# Altium integrated library ON Semi Rectifiers.IntLib: 435 symbols (part 3 of 10)
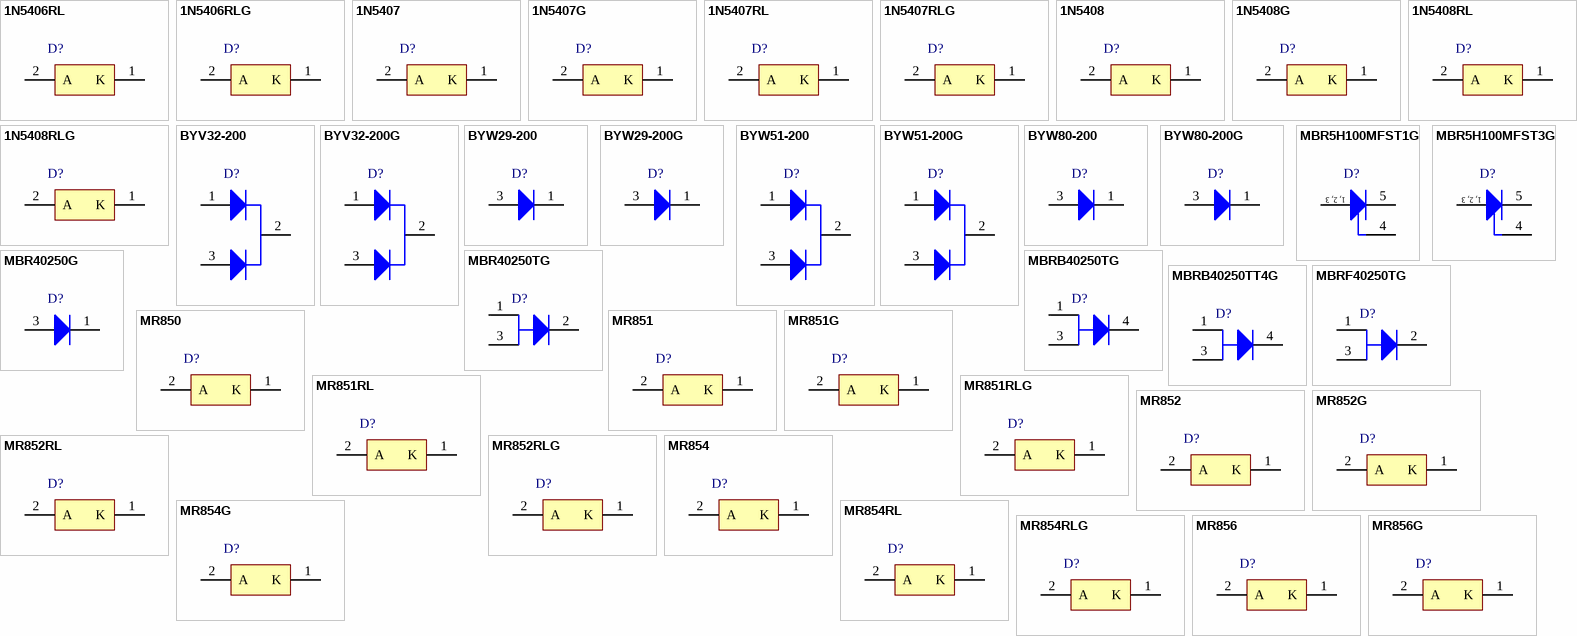
[diagram p12: symbols 1N5406RL to MR856G]

## BYW51-200G
designator D?
SWITCHMODE(TM) Power Rectifier, 3-Pin TO-220, Pb-Free, Tube; Manufacturer: On Semiconductor; PartNumber: BYW51-200G; IFSM Max (A): 100; Type: Ultrafast; VRRM Max (V): 200; DatasheetVersion: Rev. 4; PackageVersion: Rev. AF; PackageReference: TO-220-3-221A-09_AF; PackageDescription: 3-Pin Flange Mount, Vertical Straight Lead, Body 9.97 x 4.445 mm, Pitch 2.54 mm; Supplier 1: Digi-Key; Supplier Part Number 1: BYW51-200GOS-ND; Supplier 2: Farnell; Supplier Part Number 2: 2101174; Supplier 3: Newark; Supplier Part Number 3: 41K9632; Supplier 4: Mouser; Supplier Part Number 4: 863-BYW51-200G; Packing: Tube; RoHS: TRUE; Mounting Technology: Through Hole; ComponentLink1Description: Manufacturer URL; ComponentLink1URL: http://www.onsemi.com/; ComponentLink2Description: Datasheet; ComponentLink2URL: http://www.onsemi.com/pub_link/Collateral/BYW51-200-D.PDF; ComponentLink3Description: Package Specification; ComponentLink3URL: http://www.onsemi.cn/pub_link/Collateral/MCR8S-D.PDF
footprint ONSC-TO-220-3-221A-09_AF (FM, 3-Leads, Body 10.3x4.85mm, Pitch 2.54mm)
pins: 1 A1, 2 K, 3 A2

## BYW80-200
designator D?
SWITCHMODE(TM) Power Rectifier, 2-Pin TO-220, Tube; Manufacturer: On Semiconductor; PartNumber: BYW80-200; Note: 0; IFSM Max (A): 100; Type: Ultrafast; VRRM Max (V): 200; DatasheetVersion: Rev. 3; PackageVersion: Rev. E; PackageReference: TO-220-2-221B-04_E; PackageDescription: 2-Pin Flange Mount, Vertical Straight Lead, Body 9.97 x 4.44 mm, Pitch 5.08 mm; Packing: Tube; RoHS: FALSE; Mounting Technology: Through Hole; ComponentLink1Description: Manufacturer URL; ComponentLink1URL: http://www.onsemi.com/; ComponentLink2Description: Datasheet; ComponentLink2URL: http://www.onsemi.com/pub_link/Collateral/BYW80-D.PDF; ComponentLink3Description: Package Specification; ComponentLink3URL: http://www.onsemi.com/pub_link/Collateral/BYW29-D.PDF
footprint ONSC-TO-220-2-221B-04_E (FM, 2-Leads, Body 10.3x4.85mm, Pitch 5.08mm)
pins: 1 K, 3 A

## BYW80-200G
designator D?
SWITCHMODE(TM) Power Rectifier, 2-Pin TO-220, Pb-Free, Tube; Manufacturer: On Semiconductor; PartNumber: BYW80-200G; IFSM Max (A): 100; Type: Ultrafast; VRRM Max (V): 200; DatasheetVersion: Rev. 3; PackageVersion: Rev. E; PackageReference: TO-220-2-221B-04_E; PackageDescription: 2-Pin Flange Mount, Vertical Straight Lead, Body 9.97 x 4.44 mm, Pitch 5.08 mm; Supplier 1: Digi-Key; Supplier Part Number 1: BYW80-200GOS-ND; Supplier 2: Farnell; Supplier Part Number 2: 2101175; Supplier 3: Newark; Supplier Part Number 3: 41K9633; Supplier 4: Mouser; Supplier Part Number 4: 863-BYW80-200G; Packing: Tube; RoHS: TRUE; Mounting Technology: Through Hole; ComponentLink1Description: Manufacturer URL; ComponentLink1URL: http://www.onsemi.com/; ComponentLink2Description: Datasheet; ComponentLink2URL: http://www.onsemi.com/pub_link/Collateral/BYW80-D.PDF; ComponentLink3Description: Package Specification; ComponentLink3URL: http://www.onsemi.com/pub_link/Collateral/BYW29-D.PDF
footprint ONSC-TO-220-2-221B-04_E (FM, 2-Leads, Body 10.3x4.85mm, Pitch 5.08mm)
pins: 1 K, 3 A

## MBR5H100MFST1G
designator D?
SWITCHMODE(TM) Power Rectifier, 5-Pin DFN, Pb-Free, Tape and Reel; Manufacturer: On Semiconductor; PartNumber: MBR5H100MFST1G; IFSM Max (A): 200; DatasheetVersion: Rev. G; PackageVersion: Rev. G, 04/2012; PackageReference: DFN-5-488AA_G; PackageDescription: 5-Pin Small Outline No-Lead, Body 4.9 x 5.8 mm, Pitch 1.27 mm; Supplier 1: Digi-Key; Supplier Part Number 1: MBR5H100MFST1GOSTR-ND; Supplier 2: Digi-Key; Supplier Part Number 2: MBR5H100MFST1GOSCT-ND; Supplier 3: Digi-Key; Supplier Part Number 3: MBR5H100MFST1GOSDKR-ND; Supplier 4: Newark; Supplier Part Number 4: 76T6199; Supplier 5: Mouser; Supplier Part Number 5: 863-MBR5H100MFST1G; Packing: Tape and Reel; RoHS: TRUE; Mounting Technology: Surface Mount; ComponentLink1Description: Manufacturer URL; ComponentLink1URL: http://www.onsemi.com/; ComponentLink2Description: Datasheet; ComponentLink2URL: http://www.onsemi.com/pub_link/Collateral/MBR5H100MFS-D.PDF; ComponentLink3Description: Package Specification; ComponentLink3URL: http://www.onsemi.com/pub_link/Collateral/MBR5H100MFS-D.PDF
footprint ONSC-DFN-5-488AA_G_V (DFN, 5-Leads, Body 4.9x5.8mm)
pins: 1 A, 2 A, 3 A, 4 NC, 5 K
text: 1, 2, 3

## MBR5H100MFST3G
designator D?
SWITCHMODE(TM) Power Rectifier, 5-Pin DFN, Pb-Free, Tape and Reel; Manufacturer: On Semiconductor; PartNumber: MBR5H100MFST3G; IFSM Max (A): 200; DatasheetVersion: Rev. G; PackageVersion: Rev. G, 04/2012; PackageReference: DFN-5-488AA_G; PackageDescription: 5-Pin Small Outline No-Lead, Body 4.9 x 5.8 mm, Pitch 1.27 mm; Supplier 1: Mouser; Supplier Part Number 1: 863-MBR5H100MFST3G; Packing: Tape and Reel; RoHS: TRUE; Mounting Technology: Surface Mount; ComponentLink1Description: Manufacturer URL; ComponentLink1URL: http://www.onsemi.com/; ComponentLink2Description: Datasheet; ComponentLink2URL: http://www.onsemi.com/pub_link/Collateral/MBR5H100MFS-D.PDF; ComponentLink3Description: Package Specification; ComponentLink3URL: http://www.onsemi.com/pub_link/Collateral/MBR5H100MFS-D.PDF
footprint ONSC-DFN-5-488AA_G_V (DFN, 5-Leads, Body 4.9x5.8mm)
pins: 1 A, 2 A, 3 A, 4 NC, 5 K
text: 1, 2, 3

## MBR40250G
designator D?
250 V, 40 A SWITCHMODE(TM) Schottky Power Rectifier, 2-Pin TO-220, Pb-Free, Tube; Manufacturer: On Semiconductor; PartNumber: MBR40250G; IFSM Max (A): 150; VRRM Max (V): 250; DatasheetVersion: Rev. 12; PackageVersion: Rev. E; PackageReference: TO-220-2-221B-04_E; PackageDescription: 2-Pin Flange Mount, Vertical Straight Lead, Body 9.97 x 4.44 mm, Pitch 5.08 mm; Supplier 1: Digi-Key; Supplier Part Number 1: MBR40250GOS-ND; Supplier 2: Farnell; Supplier Part Number 2: 2317431; Supplier 3: Newark; Supplier Part Number 3: 42K0020; Supplier 4: Mouser; Supplier Part Number 4: 863-MBR40250G; Packing: Tube; RoHS: TRUE; Mounting Technology: Through Hole; ComponentLink1Description: Manufacturer URL; ComponentLink1URL: http://www.onsemi.com/; ComponentLink2Description: Datasheet; ComponentLink2URL: http://www.onsemi.com/pub_link/Collateral/MBR40250-D.PDF; ComponentLink3Description: Package Specification; ComponentLink3URL: http://www.onsemi.com/pub_link/Collateral/BYW29-D.PDF
footprint ONSC-TO-220-2-221B-04_E (FM, 2-Leads, Body 10.3x4.85mm, Pitch 5.08mm)
pins: 1 K, 3 A

## MBR40250TG
designator D?
250 V, 40 A SWITCHMODE(TM) Schottky Power Rectifier, 3-Pin TO-220, Pb-Free, Tube; Manufacturer: On Semiconductor; PartNumber: MBR40250TG; IFSM Max (A): 150; VRRM Max (V): 250; DatasheetVersion: Rev. 12; PackageVersion: Rev. AF; PackageReference: TO-220-3-221A-09_AF; PackageDescription: 3-Pin Flange Mount, Vertical Straight Lead, Body 9.97 x 4.445 mm, Pitch 2.54 mm; Supplier 1: Digi-Key; Supplier Part Number 1: MBR40250TGOS-ND; Supplier 2: Farnell; Supplier Part Number 2: 1431066; Supplier 3: Newark; Supplier Part Number 3: 42K0021; Supplier 4: Mouser; Supplier Part Number 4: 863-MBR40250TG; Packing: Tube; RoHS: TRUE; Mounting Technology: Through Hole; ComponentLink1Description: Manufacturer URL; ComponentLink1URL: http://www.onsemi.com/; ComponentLink2Description: Datasheet; ComponentLink2URL: http://www.onsemi.com/pub_link/Collateral/MBR40250-D.PDF; ComponentLink3Description: Package Specification; ComponentLink3URL: http://www.onsemi.cn/pub_link/Collateral/MCR8S-D.PDF
footprint ONSC-TO-220-3-221A-09_AF (FM, 3-Leads, Body 10.3x4.85mm, Pitch 2.54mm)
pins: 1 A, 2 K, 3 A

## MBRB40250TG
designator D?
250 V, 40 A SWITCHMODE(TM) Schottky Power Rectifier, 3-Pin D2PAK, Pb-Free, Tube; Manufacturer: On Semiconductor; PartNumber: MBRB40250TG; IFSM Max (A): 150; VRRM Max (V): 250; DatasheetVersion: Rev. 12; PackageVersion: Rev. K, 09/2008; PackageReference: D2PAK-3-418B-04; PackageDescription: 3-Pin Flange Mount, Body 9.145 x 9.97 mm, Pitch 2.54 mm; Supplier 1: Digi-Key; Supplier Part Number 1: MBRB40250TGOS-ND; Supplier 2: Farnell; Supplier Part Number 2: 2317525; Supplier 3: Newark; Supplier Part Number 3: 90W4477; Supplier 4: Newark; Supplier Part Number 4: 65T1370; Supplier 5: Mouser; Supplier Part Number 5: 863-MBRB40250TG; Packing: Tube; RoHS: TRUE; Mounting Technology: Surface Mount; ComponentLink1Description: Manufacturer URL; ComponentLink1URL: http://www.onsemi.com/; ComponentLink2Description: Datasheet; ComponentLink2URL: http://www.onsemi.com/pub_link/Collateral/MBR40250-D.PDF; ComponentLink3Description: Package Specification; ComponentLink3URL: http://www.onsemi.com/pub_link/Collateral/418B-04.PDF
footprint ONSC-D2PAK-3-418B-04_V (DPAK, 3-Leads, Body 9.97x9.145mm, Pitch 2.54mm)
pins: 1 A, 3 A, 4 K

## MBRB40250TT4G
designator D?
250 V, 40 A SWITCHMODE(TM) Schottky Power Rectifier, 3-Pin D2PAK, Pb-Free, Tape and Reel; Manufacturer: On Semiconductor; PartNumber: MBRB40250TT4G; IFSM Max (A): 150; VRRM Max (V): 250; DatasheetVersion: Rev. 12; PackageVersion: Rev. K, 09/2008; PackageReference: D2PAK-3-418B-04; PackageDescription: 3-Pin Flange Mount, Body 9.145 x 9.97 mm, Pitch 2.54 mm; Supplier 1: Newark; Supplier Part Number 1: 47W0367; Packing: Tape and Reel; RoHS: TRUE; Mounting Technology: Surface Mount; ComponentLink1Description: Manufacturer URL; ComponentLink1URL: http://www.onsemi.com/; ComponentLink2Description: Datasheet; ComponentLink2URL: http://www.onsemi.com/pub_link/Collateral/MBR40250-D.PDF; ComponentLink3Description: Package Specification; ComponentLink3URL: http://www.onsemi.com/pub_link/Collateral/418B-04.PDF
footprint ONSC-D2PAK-3-418B-04_V (DPAK, 3-Leads, Body 9.97x9.145mm, Pitch 2.54mm)
pins: 1 A, 3 A, 4 K

## MBRF40250TG
designator D?
250 V, 40 A SWITCHMODE(TM) Schottky Power Rectifier, 3-Pin TO-220, Pb-Free, Tube; Manufacturer: On Semiconductor; PartNumber: MBRF40250TG; IFSM Max (A): 150; VRRM Max (V): 250; DatasheetVersion: Rev. 12; PackageVersion: Rev. K, 02/2009; PackageReference: TO-220FP-3-221D-03; PackageDescription: 3-Pin Flange Mount, Vertical Straight Lead, Body 10.295 x 4.7 mm, Pitch 2.54 mm; Supplier 1: Digi-Key; Supplier Part Number 1: MBRF40250TGOS-ND; Supplier 2: Newark; Supplier Part Number 2: 41K9979; Supplier 3: Mouser; Supplier Part Number 3: 863-MBRF40250TG; Packing: Tube; RoHS: TRUE; Mounting Technology: Through Hole; ComponentLink1Description: Manufacturer URL; ComponentLink1URL: http://www.onsemi.com/; ComponentLink2Description: Datasheet; ComponentLink2URL: http://www.onsemi.com/pub_link/Collateral/MBR40250-D.PDF; ComponentLink3Description: Package Specification; ComponentLink3URL: http://www.onsemi.cn/pub_link/Collateral/221D-03.PDF
footprint ONSC-TO-220FP-3-221D-03 (FM, 3-Leads, Body 10.63x4.9mm, Pitch 2.54mm)
pins: 1 A, 2 K, 3 A

## MR850
designator D?
Fast Recovery Rectifier, 2-Pin Axial_Lead, Pb-Free, Bulk Box; Manufacturer: On Semiconductor; PartNumber: MR850; IFSM Max (A): 100; IO(rec) Max (A): 3; VRRM Max (V): 50; DatasheetVersion: Rev. 6; PackageVersion: Rev. G, 06/2000; PackageReference: AXIAL_LEAD-2-267-05; PackageDescription: 2-Pin, Axial Lead, Diameter 5.05 mm; Supplier 1: Digi-Key; Supplier Part Number 1: MR850-ND; Supplier 2: Mouser; Supplier Part Number 2: 863-MR850; Packing: Bulk Box; RoHS: TRUE; Type: Fast Recovery; Mounting Technology: Through Hole; ComponentLink1Description: Manufacturer URL; ComponentLink1URL: http://www.onsemi.com/; ComponentLink2Description: Datasheet; ComponentLink2URL: http://www.onsemi.com/pub_link/Collateral/MR850-D.PDF; ComponentLink3Description: Package Specification; ComponentLink3URL: http://www.onsemi.com/pub_link/Collateral/267-05.PDF
footprint ONSC-AXIAL_LEAD-2-267-05_V (AXIAL, 2-Leads, Diameter 5.05mm)
pins: 1 K, 2 A

## MR851
designator D?
Fast Recovery Rectifier, 2-Pin Axial_Lead, Pb-Free, Bulk Box; Manufacturer: On Semiconductor; PartNumber: MR851; IFSM Max (A): 100; IO(rec) Max (A): 3; DatasheetVersion: Rev. 6; PackageVersion: Rev. G, 06/2000; PackageReference: AXIAL_LEAD-2-267-05; PackageDescription: 2-Pin, Axial Lead, Diameter 5.05 mm; Supplier 1: Digi-Key; Supplier Part Number 1: MR851-ND; Supplier 2: Mouser; Supplier Part Number 2: 863-MR851; Packing: Bulk Box; RoHS: TRUE; Type: Fast Recovery; VRRM Max (V): 100; Mounting Technology: Through Hole; ComponentLink1Description: Manufacturer URL; ComponentLink1URL: http://www.onsemi.com/; ComponentLink2Description: Datasheet; ComponentLink2URL: http://www.onsemi.com/pub_link/Collateral/MR850-D.PDF; ComponentLink3Description: Package Specification; ComponentLink3URL: http://www.onsemi.com/pub_link/Collateral/267-05.PDF
footprint ONSC-AXIAL_LEAD-2-267-05_V (AXIAL, 2-Leads, Diameter 5.05mm)
pins: 1 K, 2 A

## MR851G
designator D?
Fast Recovery Rectifier, 2-Pin Axial_Lead, Pb-Free, Bulk Box; Manufacturer: On Semiconductor; PartNumber: MR851G; IFSM Max (A): 100; IO(rec) Max (A): 3; DatasheetVersion: Rev. 6; PackageVersion: Rev. G, 06/2000; PackageReference: AXIAL_LEAD-2-267-05; PackageDescription: 2-Pin, Axial Lead, Diameter 5.05 mm; Supplier 1: Digi-Key; Supplier Part Number 1: MR851GOS-ND; Supplier 2: Newark; Supplier Part Number 2: 68K0664; Supplier 3: Mouser; Supplier Part Number 3: 863-MR851G; Packing: Bulk Box; RoHS: TRUE; Type: Fast Recovery; VRRM Max (V): 100; Mounting Technology: Through Hole; ComponentLink1Description: Manufacturer URL; ComponentLink1URL: http://www.onsemi.com/; ComponentLink2Description: Datasheet; ComponentLink2URL: http://www.onsemi.com/pub_link/Collateral/MR850-D.PDF; ComponentLink3Description: Package Specification; ComponentLink3URL: http://www.onsemi.com/pub_link/Collateral/267-05.PDF
footprint ONSC-AXIAL_LEAD-2-267-05_V (AXIAL, 2-Leads, Diameter 5.05mm)
pins: 1 K, 2 A

## MR851RL
designator D?
Fast Recovery Rectifier, 2-Pin Axial_Lead, Pb-Free, Tape and Reel; Manufacturer: On Semiconductor; PartNumber: MR851RL; IFSM Max (A): 100; IO(rec) Max (A): 3; DatasheetVersion: Rev. 6; PackageVersion: Rev. G, 06/2000; PackageReference: AXIAL_LEAD-2-267-05; PackageDescription: 2-Pin, Axial Lead, Diameter 5.05 mm; Supplier 1: Digi-Key; Supplier Part Number 1: MR851RL-ND; Supplier 2: Mouser; Supplier Part Number 2: 863-MR851RL; Packing: Tape and Reel; RoHS: TRUE; Type: Fast Recovery; VRRM Max (V): 100; Mounting Technology: Through Hole; ComponentLink1Description: Manufacturer URL; ComponentLink1URL: http://www.onsemi.com/; ComponentLink2Description: Datasheet; ComponentLink2URL: http://www.onsemi.com/pub_link/Collateral/MR850-D.PDF; ComponentLink3Description: Package Specification; ComponentLink3URL: http://www.onsemi.com/pub_link/Collateral/267-05.PDF
footprint ONSC-AXIAL_LEAD-2-267-05_V (AXIAL, 2-Leads, Diameter 5.05mm)
pins: 1 K, 2 A

## MR851RLG
designator D?
Fast Recovery Rectifier, 2-Pin Axial_Lead, Pb-Free, Tape and Reel; Manufacturer: On Semiconductor; PartNumber: MR851RLG; IFSM Max (A): 100; IO(rec) Max (A): 3; DatasheetVersion: Rev. 6; PackageVersion: Rev. G, 06/2000; PackageReference: AXIAL_LEAD-2-267-05; PackageDescription: 2-Pin, Axial Lead, Diameter 5.05 mm; Supplier 1: Digi-Key; Supplier Part Number 1: MR851RLGOSTR-ND; Supplier 2: Digi-Key; Supplier Part Number 2: MR851RLGOSCT-ND; Supplier 3: Farnell; Supplier Part Number 3: 1887100; Supplier 4: Newark; Supplier Part Number 4: 09R9548; Supplier 5: Mouser; Supplier Part Number 5: 863-MR851RLG; Packing: Tape and Reel; RoHS: TRUE; Type: Fast Recovery; VRRM Max (V): 100; Mounting Technology: Through Hole; ComponentLink1Description: Manufacturer URL; ComponentLink1URL: http://www.onsemi.com/; ComponentLink2Description: Datasheet; ComponentLink2URL: http://www.onsemi.com/pub_link/Collateral/MR850-D.PDF; ComponentLink3Description: Package Specification; ComponentLink3URL: http://www.onsemi.com/pub_link/Collateral/267-05.PDF
footprint ONSC-AXIAL_LEAD-2-267-05_V (AXIAL, 2-Leads, Diameter 5.05mm)
pins: 1 K, 2 A

## MR852
designator D?
Fast Recovery Rectifier, 2-Pin Axial_Lead, Pb-Free, Bulk Box; Manufacturer: On Semiconductor; PartNumber: MR852; IFSM Max (A): 100; IO(rec) Max (A): 3; VRRM Max (V): 200; DatasheetVersion: Rev. 6; PackageVersion: Rev. G, 06/2000; PackageReference: AXIAL_LEAD-2-267-05; PackageDescription: 2-Pin, Axial Lead, Diameter 5.05 mm; Supplier 1: Digi-Key; Supplier Part Number 1: MR852-ND; Supplier 2: Mouser; Supplier Part Number 2: 863-MR852; Packing: Bulk Box; RoHS: TRUE; Type: Fast Recovery; Mounting Technology: Through Hole; ComponentLink1Description: Manufacturer URL; ComponentLink1URL: http://www.onsemi.com/; ComponentLink2Description: Datasheet; ComponentLink2URL: http://www.onsemi.com/pub_link/Collateral/MR850-D.PDF; ComponentLink3Description: Package Specification; ComponentLink3URL: http://www.onsemi.com/pub_link/Collateral/267-05.PDF
footprint ONSC-AXIAL_LEAD-2-267-05_V (AXIAL, 2-Leads, Diameter 5.05mm)
pins: 1 K, 2 A

## MR852G
designator D?
Fast Recovery Rectifier, 2-Pin Axial_Lead, Pb-Free, Bulk Box; Manufacturer: On Semiconductor; PartNumber: MR852G; IFSM Max (A): 100; IO(rec) Max (A): 3; VRRM Max (V): 200; DatasheetVersion: Rev. 6; PackageVersion: Rev. G, 06/2000; PackageReference: AXIAL_LEAD-2-267-05; PackageDescription: 2-Pin, Axial Lead, Diameter 5.05 mm; Supplier 1: Digi-Key; Supplier Part Number 1: MR852GOS-ND; Supplier 2: Farnell; Supplier Part Number 2: 1459131; Supplier 3: Newark; Supplier Part Number 3: 42K1533; Supplier 4: Mouser; Supplier Part Number 4: 863-MR852G; Packing: Bulk Box; RoHS: TRUE; Type: Fast Recovery; Mounting Technology: Through Hole; ComponentLink1Description: Manufacturer URL; ComponentLink1URL: http://www.onsemi.com/; ComponentLink2Description: Datasheet; ComponentLink2URL: http://www.onsemi.com/pub_link/Collateral/MR850-D.PDF; ComponentLink3Description: Package Specification; ComponentLink3URL: http://www.onsemi.com/pub_link/Collateral/267-05.PDF
footprint ONSC-AXIAL_LEAD-2-267-05_V (AXIAL, 2-Leads, Diameter 5.05mm)
pins: 1 K, 2 A

## MR852RL
designator D?
Fast Recovery Rectifier, 2-Pin Axial_Lead, Pb-Free, Tape and Reel; Manufacturer: On Semiconductor; PartNumber: MR852RL; IFSM Max (A): 100; IO(rec) Max (A): 3; VRRM Max (V): 200; DatasheetVersion: Rev. 6; PackageVersion: Rev. G, 06/2000; PackageReference: AXIAL_LEAD-2-267-05; PackageDescription: 2-Pin, Axial Lead, Diameter 5.05 mm; Supplier 1: Digi-Key; Supplier Part Number 1: MR852RLOSTR-ND; Supplier 2: Digi-Key; Supplier Part Number 2: MR852RLOSCT-ND; Supplier 3: Mouser; Supplier Part Number 3: 863-MR852RL; Packing: Tape and Reel; RoHS: TRUE; Type: Fast Recovery; Mounting Technology: Through Hole; ComponentLink1Description: Manufacturer URL; ComponentLink1URL: http://www.onsemi.com/; ComponentLink2Description: Datasheet; ComponentLink2URL: http://www.onsemi.com/pub_link/Collateral/MR850-D.PDF; ComponentLink3Description: Package Specification; ComponentLink3URL: http://www.onsemi.com/pub_link/Collateral/267-05.PDF
footprint ONSC-AXIAL_LEAD-2-267-05_V (AXIAL, 2-Leads, Diameter 5.05mm)
pins: 1 K, 2 A

## MR852RLG
designator D?
Fast Recovery Rectifier, 2-Pin Axial_Lead, Pb-Free, Tape and Reel; Manufacturer: On Semiconductor; PartNumber: MR852RLG; IFSM Max (A): 100; IO(rec) Max (A): 3; VRRM Max (V): 200; DatasheetVersion: Rev. 6; PackageVersion: Rev. G, 06/2000; PackageReference: AXIAL_LEAD-2-267-05; PackageDescription: 2-Pin, Axial Lead, Diameter 5.05 mm; Supplier 1: Digi-Key; Supplier Part Number 1: MR852RLGOSTR-ND; Supplier 2: Digi-Key; Supplier Part Number 2: MR852RLGOSCT-ND; Supplier 3: Farnell; Supplier Part Number 3: 9556346; Supplier 4: Newark; Supplier Part Number 4: 09R9549; Supplier 5: Mouser; Supplier Part Number 5: 863-MR852RLG; Packing: Tape and Reel; RoHS: TRUE; Type: Fast Recovery; Mounting Technology: Through Hole; ComponentLink1Description: Manufacturer URL; ComponentLink1URL: http://www.onsemi.com/; ComponentLink2Description: Datasheet; ComponentLink2URL: http://www.onsemi.com/pub_link/Collateral/MR850-D.PDF; ComponentLink3Description: Package Specification; ComponentLink3URL: http://www.onsemi.com/pub_link/Collateral/267-05.PDF
footprint ONSC-AXIAL_LEAD-2-267-05_V (AXIAL, 2-Leads, Diameter 5.05mm)
pins: 1 K, 2 A

## MR854
designator D?
Fast Recovery Rectifier, 2-Pin Axial_Lead, Pb-Free, Bulk Box; Manufacturer: On Semiconductor; PartNumber: MR854; IFSM Max (A): 100; IO(rec) Max (A): 3; VRRM Max (V): 400; DatasheetVersion: Rev. 6; PackageVersion: Rev. G, 06/2000; PackageReference: AXIAL_LEAD-2-267-05; PackageDescription: 2-Pin, Axial Lead, Diameter 5.05 mm; Supplier 1: Digi-Key; Supplier Part Number 1: MR854OS-ND; Supplier 2: Mouser; Supplier Part Number 2: 863-MR854; Packing: Bulk Box; RoHS: TRUE; Type: Fast Recovery; Mounting Technology: Through Hole; ComponentLink1Description: Manufacturer URL; ComponentLink1URL: http://www.onsemi.com/; ComponentLink2Description: Datasheet; ComponentLink2URL: http://www.onsemi.com/pub_link/Collateral/MR850-D.PDF; ComponentLink3Description: Package Specification; ComponentLink3URL: http://www.onsemi.com/pub_link/Collateral/267-05.PDF
footprint ONSC-AXIAL_LEAD-2-267-05_V (AXIAL, 2-Leads, Diameter 5.05mm)
pins: 1 K, 2 A

## MR854G
designator D?
Fast Recovery Rectifier, 2-Pin Axial_Lead, Pb-Free, Bulk Box; Manufacturer: On Semiconductor; PartNumber: MR854G; IFSM Max (A): 100; IO(rec) Max (A): 3; VRRM Max (V): 400; DatasheetVersion: Rev. 6; PackageVersion: Rev. G, 06/2000; PackageReference: AXIAL_LEAD-2-267-05; PackageDescription: 2-Pin, Axial Lead, Diameter 5.05 mm; Supplier 1: Digi-Key; Supplier Part Number 1: MR854GOS-ND; Supplier 2: Farnell; Supplier Part Number 2: 1705900; Supplier 3: Newark; Supplier Part Number 3: 42K1535; Supplier 4: Mouser; Supplier Part Number 4: 863-MR854G; Packing: Bulk Box; RoHS: TRUE; Type: Fast Recovery; Mounting Technology: Through Hole; ComponentLink1Description: Manufacturer URL; ComponentLink1URL: http://www.onsemi.com/; ComponentLink2Description: Datasheet; ComponentLink2URL: http://www.onsemi.com/pub_link/Collateral/MR850-D.PDF; ComponentLink3Description: Package Specification; ComponentLink3URL: http://www.onsemi.com/pub_link/Collateral/267-05.PDF
footprint ONSC-AXIAL_LEAD-2-267-05_V (AXIAL, 2-Leads, Diameter 5.05mm)
pins: 1 K, 2 A

## MR854RL
designator D?
Fast Recovery Rectifier, 2-Pin Axial_Lead, Pb-Free, Tape and Reel; Manufacturer: On Semiconductor; PartNumber: MR854RL; IFSM Max (A): 100; IO(rec) Max (A): 3; VRRM Max (V): 400; DatasheetVersion: Rev. 6; PackageVersion: Rev. G, 06/2000; PackageReference: AXIAL_LEAD-2-267-05; PackageDescription: 2-Pin, Axial Lead, Diameter 5.05 mm; Supplier 1: Digi-Key; Supplier Part Number 1: MR854RL-ND; Supplier 2: Mouser; Supplier Part Number 2: 863-MR854RL; Packing: Tape and Reel; RoHS: TRUE; Type: Fast Recovery; Mounting Technology: Through Hole; ComponentLink1Description: Manufacturer URL; ComponentLink1URL: http://www.onsemi.com/; ComponentLink2Description: Datasheet; ComponentLink2URL: http://www.onsemi.com/pub_link/Collateral/MR850-D.PDF; ComponentLink3Description: Package Specification; ComponentLink3URL: http://www.onsemi.com/pub_link/Collateral/267-05.PDF
footprint ONSC-AXIAL_LEAD-2-267-05_V (AXIAL, 2-Leads, Diameter 5.05mm)
pins: 1 K, 2 A

## MR854RLG
designator D?
Fast Recovery Rectifier, 2-Pin Axial_Lead, Pb-Free, Tape and Reel; Manufacturer: On Semiconductor; PartNumber: MR854RLG; IFSM Max (A): 100; IO(rec) Max (A): 3; VRRM Max (V): 400; DatasheetVersion: Rev. 6; PackageVersion: Rev. G, 06/2000; PackageReference: AXIAL_LEAD-2-267-05; PackageDescription: 2-Pin, Axial Lead, Diameter 5.05 mm; Supplier 1: Digi-Key; Supplier Part Number 1: MR854RLGOSTR-ND; Supplier 2: Digi-Key; Supplier Part Number 2: MR854RLGOSCT-ND; Supplier 3: Farnell; Supplier Part Number 3: 1651049; Supplier 4: Newark; Supplier Part Number 4: 84K8817; Supplier 5: Mouser; Supplier Part Number 5: 863-MR854RLG; Packing: Tape and Reel; RoHS: TRUE; Type: Fast Recovery; Mounting Technology: Through Hole; ComponentLink1Description: Manufacturer URL; ComponentLink1URL: http://www.onsemi.com/; ComponentLink2Description: Datasheet; ComponentLink2URL: http://www.onsemi.com/pub_link/Collateral/MR850-D.PDF; ComponentLink3Description: Package Specification; ComponentLink3URL: http://www.onsemi.com/pub_link/Collateral/267-05.PDF
footprint ONSC-AXIAL_LEAD-2-267-05_V (AXIAL, 2-Leads, Diameter 5.05mm)
pins: 1 K, 2 A

## MR856
designator D?
Fast Recovery Rectifier, 2-Pin Axial_Lead, Pb-Free, Bulk Box; Manufacturer: On Semiconductor; PartNumber: MR856; IFSM Max (A): 100; IO(rec) Max (A): 3; VRRM Max (V): 600; DatasheetVersion: Rev. 6; PackageVersion: Rev. G, 06/2000; PackageReference: AXIAL_LEAD-2-267-05; PackageDescription: 2-Pin, Axial Lead, Diameter 5.05 mm; Supplier 1: Digi-Key; Supplier Part Number 1: MR856-ND; Supplier 2: Mouser; Supplier Part Number 2: 863-MR856; Packing: Bulk Box; RoHS: TRUE; Type: Fast Recovery; Mounting Technology: Through Hole; ComponentLink1Description: Manufacturer URL; ComponentLink1URL: http://www.onsemi.com/; ComponentLink2Description: Datasheet; ComponentLink2URL: http://www.onsemi.com/pub_link/Collateral/MR850-D.PDF; ComponentLink3Description: Package Specification; ComponentLink3URL: http://www.onsemi.com/pub_link/Collateral/267-05.PDF
footprint ONSC-AXIAL_LEAD-2-267-05_V (AXIAL, 2-Leads, Diameter 5.05mm)
pins: 1 K, 2 A

## MR856G
designator D?
Fast Recovery Rectifier, 2-Pin Axial_Lead, Pb-Free, Bulk Box; Manufacturer: On Semiconductor; PartNumber: MR856G; IFSM Max (A): 100; IO(rec) Max (A): 3; VRRM Max (V): 600; DatasheetVersion: Rev. 6; PackageVersion: Rev. G, 06/2000; PackageReference: AXIAL_LEAD-2-267-05; PackageDescription: 2-Pin, Axial Lead, Diameter 5.05 mm; Supplier 1: Digi-Key; Supplier Part Number 1: MR856GOS-ND; Supplier 2: Farnell; Supplier Part Number 2: 1459133; Supplier 3: Newark; Supplier Part Number 3: 42K1538; Supplier 4: Mouser; Supplier Part Number 4: 863-MR856G; Packing: Bulk Box; RoHS: TRUE; Type: Fast Recovery; Mounting Technology: Through Hole; ComponentLink1Description: Manufacturer URL; ComponentLink1URL: http://www.onsemi.com/; ComponentLink2Description: Datasheet; ComponentLink2URL: http://www.onsemi.com/pub_link/Collateral/MR850-D.PDF; ComponentLink3Description: Package Specification; ComponentLink3URL: http://www.onsemi.com/pub_link/Collateral/267-05.PDF
footprint ONSC-AXIAL_LEAD-2-267-05_V (AXIAL, 2-Leads, Diameter 5.05mm)
pins: 1 K, 2 A

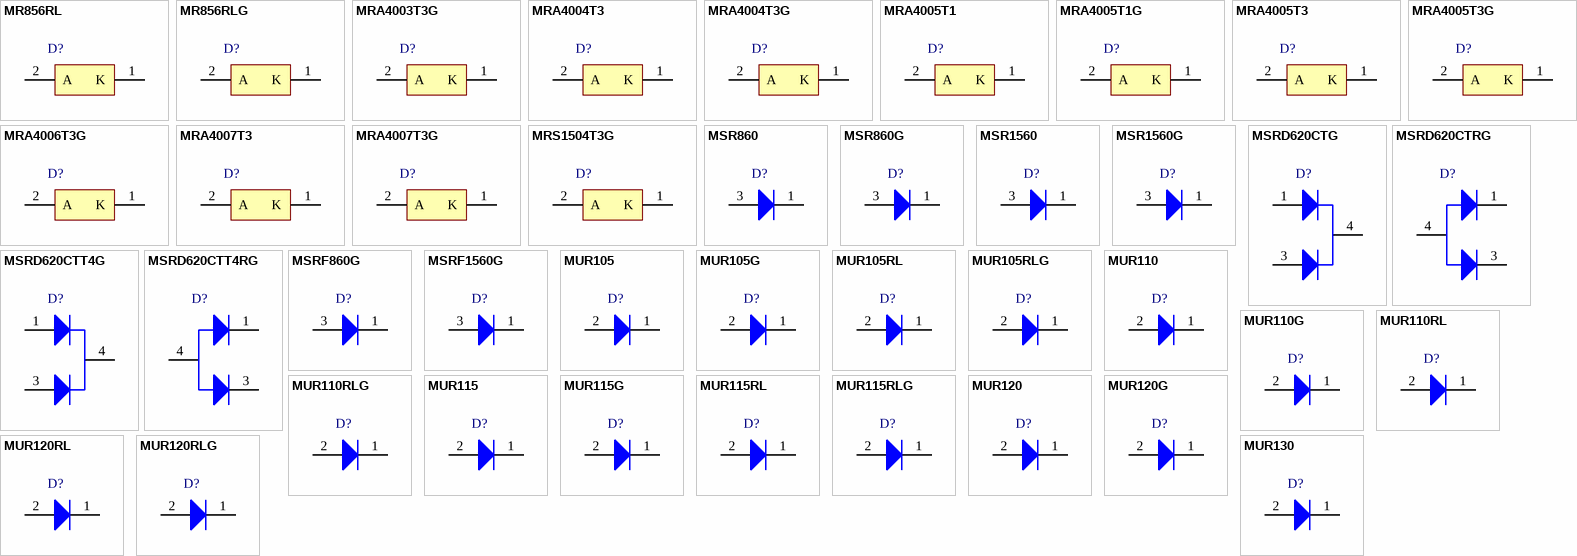
[diagram p3: symbols MR856RL to MUR130]

## MR856RL
designator D?
Fast Recovery Rectifier, 2-Pin Axial_Lead, Pb-Free, Tape and Reel; Manufacturer: On Semiconductor; PartNumber: MR856RL; IFSM Max (A): 100; IO(rec) Max (A): 3; VRRM Max (V): 600; DatasheetVersion: Rev. 6; PackageVersion: Rev. G, 06/2000; PackageReference: AXIAL_LEAD-2-267-05; PackageDescription: 2-Pin, Axial Lead, Diameter 5.05 mm; Supplier 1: Digi-Key; Supplier Part Number 1: MR856RLOSTR-ND; Supplier 2: Digi-Key; Supplier Part Number 2: MR856RLOSCT-ND; Supplier 3: Mouser; Supplier Part Number 3: 863-MR856RL; Packing: Tape and Reel; RoHS: TRUE; Type: Fast Recovery; Mounting Technology: Through Hole; ComponentLink1Description: Manufacturer URL; ComponentLink1URL: http://www.onsemi.com/; ComponentLink2Description: Datasheet; ComponentLink2URL: http://www.onsemi.com/pub_link/Collateral/MR850-D.PDF; ComponentLink3Description: Package Specification; ComponentLink3URL: http://www.onsemi.com/pub_link/Collateral/267-05.PDF
footprint ONSC-AXIAL_LEAD-2-267-05_V (AXIAL, 2-Leads, Diameter 5.05mm)
pins: 1 K, 2 A

## MR856RLG
designator D?
Fast Recovery Rectifier, 2-Pin Axial_Lead, Pb-Free, Tape and Reel; Manufacturer: On Semiconductor; PartNumber: MR856RLG; IFSM Max (A): 100; IO(rec) Max (A): 3; VRRM Max (V): 600; DatasheetVersion: Rev. 6; PackageVersion: Rev. G, 06/2000; PackageReference: AXIAL_LEAD-2-267-05; PackageDescription: 2-Pin, Axial Lead, Diameter 5.05 mm; Supplier 1: Digi-Key; Supplier Part Number 1: MR856RLGOSTR-ND; Supplier 2: Digi-Key; Supplier Part Number 2: MR856RLGOSCT-ND; Supplier 3: Farnell; Supplier Part Number 3: 9556354; Supplier 4: Farnell; Supplier Part Number 4: 2368189; Supplier 5: Newark; Supplier Part Number 5: 42K1539; Supplier 6: Newark; Supplier Part Number 6: 84K8818; Supplier 7: Mouser; Supplier Part Number 7: 863-MR856RLG; Packing: Tape and Reel; RoHS: TRUE; Type: Fast Recovery; Mounting Technology: Through Hole; ComponentLink1Description: Manufacturer URL; ComponentLink1URL: http://www.onsemi.com/; ComponentLink2Description: Datasheet; ComponentLink2URL: http://www.onsemi.com/pub_link/Collateral/MR850-D.PDF; ComponentLink3Description: Package Specification; ComponentLink3URL: http://www.onsemi.com/pub_link/Collateral/267-05.PDF
footprint ONSC-AXIAL_LEAD-2-267-05_V (AXIAL, 2-Leads, Diameter 5.05mm)
pins: 1 K, 2 A

## MRA4003T3G
designator D?
Surface Mount Standard Recovery Power Rectifier, 2-Pin SMA, Pb-Free, Tape and Reel; Manufacturer: On Semiconductor; PartNumber: MRA4003T3G; IFSM Max (A): 30; IO(rec) Max (A): 1; VRRM Max (V): 300; DatasheetVersion: Rev. 9; PackageVersion: Rev. G, 07/2012; PackageReference: SMA-2-403D-02; PackageDescription: 2-Pin Small Molded Package, J-Bend Lead, Body 2.605 x 4.315 mm; Supplier 1: Digi-Key; Supplier Part Number 1: MRA4003T3GOSTR-ND; Supplier 2: Digi-Key; Supplier Part Number 2: MRA4003T3GOSCT-ND; Supplier 3: Digi-Key; Supplier Part Number 3: MRA4003T3GOSDKR-ND; Supplier 4: Farnell; Supplier Part Number 4: 1459134RL; Supplier 5: Farnell; Supplier Part Number 5: 1459134; Supplier 6: Farnell; Supplier Part Number 6: 2363492; Supplier 7: Newark; Supplier Part Number 7: 45J1686; Supplier 8: Newark; Supplier Part Number 8: 67R1383; Supplier 9: Mouser; Supplier Part Number 9: 863-MRA4003T3G; Packing: Tape and Reel; RoHS: TRUE; Type: Standard Recovery; Mounting Technology: Surface Mount; ComponentLink1Description: Manufacturer URL; ComponentLink1URL: http://www.onsemi.com/; ComponentLink2Description: Datasheet; ComponentLink2URL: http://www.onsemi.com/pub_link/Collateral/MRA4003T3-D.PDF; ComponentLink3Description: Package Specification; ComponentLink3URL: http://www.onsemi.com/pub_link/Collateral/403D-02.PDF
footprint ONSC-SMA-2-403D-02_V (Molded, 2-Leads, Body 4.57x2.92mm)
pins: 1 K, 2 A

## MRA4004T3
designator D?
Surface Mount Standard Recovery Power Rectifier, 2-Pin SMA, Tape and Reel; Manufacturer: On Semiconductor; PartNumber: MRA4004T3; IFSM Max (A): 30; IO(rec) Max (A): 1; VRRM Max (V): 400; DatasheetVersion: Rev. 9; PackageVersion: Rev. G, 07/2012; PackageReference: SMA-2-403D-02; PackageDescription: 2-Pin Small Molded Package, J-Bend Lead, Body 2.605 x 4.315 mm; Supplier 1: Digi-Key; Supplier Part Number 1: MRA4004T3OSTR-ND; Supplier 2: Digi-Key; Supplier Part Number 2: MRA4004T3OSCT-ND; Supplier 3: Digi-Key; Supplier Part Number 3: MRA4004T3OSDKR-ND; Packing: Tape and Reel; RoHS: FALSE; Type: Standard Recovery; Mounting Technology: Surface Mount; ComponentLink1Description: Manufacturer URL; ComponentLink1URL: http://www.onsemi.com/; ComponentLink2Description: Datasheet; ComponentLink2URL: http://www.onsemi.com/pub_link/Collateral/MRA4003T3-D.PDF; ComponentLink3Description: Package Specification; ComponentLink3URL: http://www.onsemi.com/pub_link/Collateral/403D-02.PDF
footprint ONSC-SMA-2-403D-02_V (Molded, 2-Leads, Body 4.57x2.92mm)
pins: 1 K, 2 A

## MRA4004T3G
designator D?
Surface Mount Standard Recovery Power Rectifier, 2-Pin SMA, Pb-Free, Tape and Reel; Manufacturer: On Semiconductor; PartNumber: MRA4004T3G; IFSM Max (A): 30; IO(rec) Max (A): 1; VRRM Max (V): 400; DatasheetVersion: Rev. 9; PackageVersion: Rev. G, 07/2012; PackageReference: SMA-2-403D-02; PackageDescription: 2-Pin Small Molded Package, J-Bend Lead, Body 2.605 x 4.315 mm; Supplier 1: Digi-Key; Supplier Part Number 1: MRA4004T3GOSTR-ND; Supplier 2: Digi-Key; Supplier Part Number 2: MRA4004T3GOSCT-ND; Supplier 3: Digi-Key; Supplier Part Number 3: MRA4004T3GOSDKR-ND; Supplier 4: Farnell; Supplier Part Number 4: 1459135; Supplier 5: Farnell; Supplier Part Number 5: 1459135RL; Supplier 6: Farnell; Supplier Part Number 6: 1874045; Supplier 7: Newark; Supplier Part Number 7: 45J1687; Supplier 8: Newark; Supplier Part Number 8: 31M3369; Supplier 9: Mouser; Supplier Part Number 9: 863-MRA4004T3G; Packing: Tape and Reel; RoHS: TRUE; Type: Standard Recovery; Mounting Technology: Surface Mount; ComponentLink1Description: Manufacturer URL; ComponentLink1URL: http://www.onsemi.com/; ComponentLink2Description: Datasheet; ComponentLink2URL: http://www.onsemi.com/pub_link/Collateral/MRA4003T3-D.PDF; ComponentLink3Description: Package Specification; ComponentLink3URL: http://www.onsemi.com/pub_link/Collateral/403D-02.PDF
footprint ONSC-SMA-2-403D-02_V (Molded, 2-Leads, Body 4.57x2.92mm)
pins: 1 K, 2 A

## MRA4005T1
designator D?
Surface Mount Standard Recovery Power Rectifier, 2-Pin SMA, Tape and Reel; Manufacturer: On Semiconductor; PartNumber: MRA4005T1; IFSM Max (A): 30; IO(rec) Max (A): 1; VRRM Max (V): 600; DatasheetVersion: Rev. 9; PackageVersion: Rev. G, 07/2012; PackageReference: SMA-2-403D-02; PackageDescription: 2-Pin Small Molded Package, J-Bend Lead, Body 2.605 x 4.315 mm; Supplier 1: Digi-Key; Supplier Part Number 1: MRA4005T1-ND; Packing: Tape and Reel; RoHS: FALSE; Type: Standard Recovery; Mounting Technology: Surface Mount; ComponentLink1Description: Manufacturer URL; ComponentLink1URL: http://www.onsemi.com/; ComponentLink2Description: Datasheet; ComponentLink2URL: http://www.onsemi.com/pub_link/Collateral/MRA4003T3-D.PDF; ComponentLink3Description: Package Specification; ComponentLink3URL: http://www.onsemi.com/pub_link/Collateral/403D-02.PDF
footprint ONSC-SMA-2-403D-02_V (Molded, 2-Leads, Body 4.57x2.92mm)
pins: 1 K, 2 A

## MRA4005T1G
designator D?
Surface Mount Standard Recovery Power Rectifier, 2-Pin SMA, Pb-Free, Tape and Reel; Manufacturer: On Semiconductor; PartNumber: MRA4005T1G; IFSM Max (A): 30; IO(rec) Max (A): 1; VRRM Max (V): 600; DatasheetVersion: Rev. 9; PackageVersion: Rev. G, 07/2012; PackageReference: SMA-2-403D-02; PackageDescription: 2-Pin Small Molded Package, J-Bend Lead, Body 2.605 x 4.315 mm; Supplier 1: Digi-Key; Supplier Part Number 1: MRA4005T1GOSTR-ND; Supplier 2: Digi-Key; Supplier Part Number 2: MRA4005T1GOSCT-ND; Supplier 3: Digi-Key; Supplier Part Number 3: MRA4005T1GOSDKR-ND; Supplier 4: Farnell; Supplier Part Number 4: 2369438; Supplier 5: Farnell; Supplier Part Number 5: 1861222; Supplier 6: Newark; Supplier Part Number 6: 09R9547; Supplier 7: Mouser; Supplier Part Number 7: 863-MRA4005T1G; Packing: Tape and Reel; RoHS: TRUE; Type: Standard Recovery; Mounting Technology: Surface Mount; ComponentLink1Description: Manufacturer URL; ComponentLink1URL: http://www.onsemi.com/; ComponentLink2Description: Datasheet; ComponentLink2URL: http://www.onsemi.com/pub_link/Collateral/MRA4003T3-D.PDF; ComponentLink3Description: Package Specification; ComponentLink3URL: http://www.onsemi.com/pub_link/Collateral/403D-02.PDF
footprint ONSC-SMA-2-403D-02_V (Molded, 2-Leads, Body 4.57x2.92mm)
pins: 1 K, 2 A

## MRA4005T3
designator D?
Surface Mount Standard Recovery Power Rectifier, 2-Pin SMA, Tape and Reel; Manufacturer: On Semiconductor; PartNumber: MRA4005T3; IFSM Max (A): 30; IO(rec) Max (A): 1; VRRM Max (V): 600; DatasheetVersion: Rev. 9; PackageVersion: Rev. G, 07/2012; PackageReference: SMA-2-403D-02; PackageDescription: 2-Pin Small Molded Package, J-Bend Lead, Body 2.605 x 4.315 mm; Supplier 1: Digi-Key; Supplier Part Number 1: MRA4005T3OSTR-ND; Supplier 2: Digi-Key; Supplier Part Number 2: MRA4005T3OSCT-ND; Supplier 3: Digi-Key; Supplier Part Number 3: MRA4005T3OSDKR-ND; Packing: Tape and Reel; RoHS: FALSE; Type: Standard Recovery; Mounting Technology: Surface Mount; ComponentLink1Description: Manufacturer URL; ComponentLink1URL: http://www.onsemi.com/; ComponentLink2Description: Datasheet; ComponentLink2URL: http://www.onsemi.com/pub_link/Collateral/MRA4003T3-D.PDF; ComponentLink3Description: Package Specification; ComponentLink3URL: http://www.onsemi.com/pub_link/Collateral/403D-02.PDF
footprint ONSC-SMA-2-403D-02_V (Molded, 2-Leads, Body 4.57x2.92mm)
pins: 1 K, 2 A

## MRA4005T3G
designator D?
Surface Mount Standard Recovery Power Rectifier, 2-Pin SMA, Pb-Free, Tape and Reel; Manufacturer: On Semiconductor; PartNumber: MRA4005T3G; IFSM Max (A): 30; IO(rec) Max (A): 1; VRRM Max (V): 600; DatasheetVersion: Rev. 9; PackageVersion: Rev. G, 07/2012; PackageReference: SMA-2-403D-02; PackageDescription: 2-Pin Small Molded Package, J-Bend Lead, Body 2.605 x 4.315 mm; Supplier 1: Digi-Key; Supplier Part Number 1: MRA4005T3GOSTR-ND; Supplier 2: Digi-Key; Supplier Part Number 2: MRA4005T3GOSCT-ND; Supplier 3: Digi-Key; Supplier Part Number 3: MRA4005T3GOSDKR-ND; Supplier 4: Farnell; Supplier Part Number 4: 1459136RL; Supplier 5: Farnell; Supplier Part Number 5: 1459136; Supplier 6: Farnell; Supplier Part Number 6: 1874142; Supplier 7: Newark; Supplier Part Number 7: 56P2884; Supplier 8: Newark; Supplier Part Number 8: 71J6183; Supplier 9: Mouser; Supplier Part Number 9: 863-MRA4005T3G; Packing: Tape and Reel; RoHS: TRUE; Type: Standard Recovery; Mounting Technology: Surface Mount; ComponentLink1Description: Manufacturer URL; ComponentLink1URL: http://www.onsemi.com/; ComponentLink2Description: Datasheet; ComponentLink2URL: http://www.onsemi.com/pub_link/Collateral/MRA4003T3-D.PDF; ComponentLink3Description: Package Specification; ComponentLink3URL: http://www.onsemi.com/pub_link/Collateral/403D-02.PDF
footprint ONSC-SMA-2-403D-02_V (Molded, 2-Leads, Body 4.57x2.92mm)
pins: 1 K, 2 A

## MRA4006T3G
designator D?
Surface Mount Standard Recovery Power Rectifier, 2-Pin SMA, Pb-Free, Tape and Reel; Manufacturer: On Semiconductor; PartNumber: MRA4006T3G; IFSM Max (A): 30; IO(rec) Max (A): 1; VRRM Max (V): 800; DatasheetVersion: Rev. 9; PackageVersion: Rev. G, 07/2012; PackageReference: SMA-2-403D-02; PackageDescription: 2-Pin Small Molded Package, J-Bend Lead, Body 2.605 x 4.315 mm; Supplier 1: Digi-Key; Supplier Part Number 1: MRA4006T3GOSTR-ND; Supplier 2: Digi-Key; Supplier Part Number 2: MRA4006T3GOSCT-ND; Supplier 3: Digi-Key; Supplier Part Number 3: MRA4006T3GOSDKR-ND; Supplier 4: Farnell; Supplier Part Number 4: 1611257; Supplier 5: Farnell; Supplier Part Number 5: 1611257RL; Supplier 6: Newark; Supplier Part Number 6: 04M4276; Supplier 7: Newark; Supplier Part Number 7: 45J1689; Supplier 8: Mouser; Supplier Part Number 8: 863-MRA4006T3G; Packing: Tape and Reel; RoHS: TRUE; Type: Standard Recovery; Mounting Technology: Surface Mount; ComponentLink1Description: Manufacturer URL; ComponentLink1URL: http://www.onsemi.com/; ComponentLink2Description: Datasheet; ComponentLink2URL: http://www.onsemi.com/pub_link/Collateral/MRA4003T3-D.PDF; ComponentLink3Description: Package Specification; ComponentLink3URL: http://www.onsemi.com/pub_link/Collateral/403D-02.PDF
footprint ONSC-SMA-2-403D-02_V (Molded, 2-Leads, Body 4.57x2.92mm)
pins: 1 K, 2 A

## MRA4007T3
designator D?
Surface Mount Standard Recovery Power Rectifier, 2-Pin SMA, Tape and Reel; Manufacturer: On Semiconductor; PartNumber: MRA4007T3; IFSM Max (A): 30; IO(rec) Max (A): 1; VRRM Max (V): 1000; DatasheetVersion: Rev. 9; PackageVersion: Rev. G, 07/2012; PackageReference: SMA-2-403D-02; PackageDescription: 2-Pin Small Molded Package, J-Bend Lead, Body 2.605 x 4.315 mm; Supplier 1: Digi-Key; Supplier Part Number 1: MRA4007T3OSTR-ND; Supplier 2: Digi-Key; Supplier Part Number 2: MRA4007T3OSCT-ND; Supplier 3: Digi-Key; Supplier Part Number 3: MRA4007T3OSDKR-ND; Packing: Tape and Reel; RoHS: FALSE; Type: Standard Recovery; Mounting Technology: Surface Mount; ComponentLink1Description: Manufacturer URL; ComponentLink1URL: http://www.onsemi.com/; ComponentLink2Description: Datasheet; ComponentLink2URL: http://www.onsemi.com/pub_link/Collateral/MRA4003T3-D.PDF; ComponentLink3Description: Package Specification; ComponentLink3URL: http://www.onsemi.com/pub_link/Collateral/403D-02.PDF
footprint ONSC-SMA-2-403D-02_V (Molded, 2-Leads, Body 4.57x2.92mm)
pins: 1 K, 2 A

## MRA4007T3G
designator D?
Surface Mount Standard Recovery Power Rectifier, 2-Pin SMA, Pb-Free, Tape and Reel; Manufacturer: On Semiconductor; PartNumber: MRA4007T3G; IFSM Max (A): 30; IO(rec) Max (A): 1; VRRM Max (V): 1000; DatasheetVersion: Rev. 9; PackageVersion: Rev. G, 07/2012; PackageReference: SMA-2-403D-02; PackageDescription: 2-Pin Small Molded Package, J-Bend Lead, Body 2.605 x 4.315 mm; Supplier 1: Digi-Key; Supplier Part Number 1: MRA4007T3GOSTR-ND; Supplier 2: Digi-Key; Supplier Part Number 2: MRA4007T3GOSCT-ND; Supplier 3: Digi-Key; Supplier Part Number 3: MRA4007T3GOSDKR-ND; Supplier 4: Farnell; Supplier Part Number 4: 1459137RL; Supplier 5: Farnell; Supplier Part Number 5: 1459137; Supplier 6: Farnell; Supplier Part Number 6: 2363493; Supplier 7: Newark; Supplier Part Number 7: 67R1384; Supplier 8: Newark; Supplier Part Number 8: 20J4309; Supplier 9: Mouser; Supplier Part Number 9: 863-MRA4007T3G; Packing: Tape and Reel; RoHS: TRUE; Type: Standard Recovery; Mounting Technology: Surface Mount; ComponentLink1Description: Manufacturer URL; ComponentLink1URL: http://www.onsemi.com/; ComponentLink2Description: Datasheet; ComponentLink2URL: http://www.onsemi.com/pub_link/Collateral/MRA4003T3-D.PDF; ComponentLink3Description: Package Specification; ComponentLink3URL: http://www.onsemi.com/pub_link/Collateral/403D-02.PDF
footprint ONSC-SMA-2-403D-02_V (Molded, 2-Leads, Body 4.57x2.92mm)
pins: 1 K, 2 A

## MRS1504T3G
designator D?
Surface Mount Standard Recovery Power Rectifier, 2-Pin SMB, Pb-Free, Tape and Reel; Manufacturer: On Semiconductor; PartNumber: MRS1504T3G; IFSM Max (A): 50; IO(rec) Max (A): 1.5; VRRM Max (V): 400; DatasheetVersion: Rev. 6; PackageVersion: Rev. J, 07/2012; PackageReference: SMB-2-403A-03; PackageDescription: 2-Pin Small Molded Package, J-Bend Lead, Body 4.33 x 3.625 mm; Supplier 1: Digi-Key; Supplier Part Number 1: MRS1504T3GOSTR-ND; Supplier 2: Digi-Key; Supplier Part Number 2: MRS1504T3GOSCT-ND; Supplier 3: Digi-Key; Supplier Part Number 3: MRS1504T3GOSDKR-ND; Supplier 4: Farnell; Supplier Part Number 4: 1651086; Supplier 5: Farnell; Supplier Part Number 5: 1651086RL; Supplier 6: Newark; Supplier Part Number 6: 83K8591; Supplier 7: Mouser; Supplier Part Number 7: 863-MRS1504T3G; Packing: Tape and Reel; RoHS: TRUE; Type: Standard Recovery; Mounting Technology: Surface Mount; ComponentLink1Description: Manufacturer URL; ComponentLink1URL: http://www.onsemi.com/; ComponentLink2Description: Datasheet; ComponentLink2URL: http://www.onsemi.com/pub_link/Collateral/MRS1504T3-D.PDF; ComponentLink3Description: Package Specification; ComponentLink3URL: http://www.onsemi.com/pub_link/Collateral/403A-03.PDF
footprint ONSC-SMB-2-403A-03_V (Molded, 2-Leads, Body 4.6x3.95mm)
pins: 1 K, 2 A

## MSR860
designator D?
SWITCHMODE(TM) Soft Recovery Power Rectifier, 2-Pin TO-220, Tube; Manufacturer: On Semiconductor; PartNumber: MSR860; IFSM Max (A): 100; IO(rec) Max (A): 8; Type: Ultrasoft; VRRM Max (V): 600; DatasheetVersion: Rev. 6; PackageVersion: Rev. F, 04/2013; PackageReference: TO-220-2-221B-04; PackageDescription: 2-Pin Flange Mount, Vertical Straight Lead, Body 9.97 x 4.44 mm, Pitch 5.08 mm; Supplier 1: Digi-Key; Supplier Part Number 1: MSR860OS-ND; Packing: Tube; RoHS: FALSE; Mounting Technology: Through Hole; ComponentLink1Description: Manufacturer URL; ComponentLink1URL: http://www.onsemi.com/; ComponentLink2Description: Datasheet; ComponentLink2URL: http://www.onsemi.com/pub_link/Collateral/MSR860-D.PDF; ComponentLink3Description: Package Specification; ComponentLink3URL: http://www.onsemi.com/pub_link/Collateral/221B-04.PDF
footprint ONSC-TO-220-2-221B-04 (FM, 2-Leads, Body 10.3x4.85mm, Pitch 5.08mm)
pins: 1 K, 3 A

## MSR860G
designator D?
SWITCHMODE(TM) Soft Recovery Power Rectifier, 2-Pin TO-220, Pb-Free, Tube; Manufacturer: On Semiconductor; PartNumber: MSR860G; IFSM Max (A): 100; IO(rec) Max (A): 8; Type: Ultrasoft; VRRM Max (V): 600; DatasheetVersion: Rev. 6; PackageVersion: Rev. F, 04/2013; PackageReference: TO-220-2-221B-04; PackageDescription: 2-Pin Flange Mount, Vertical Straight Lead, Body 9.97 x 4.44 mm, Pitch 5.08 mm; Supplier 1: Digi-Key; Supplier Part Number 1: MSR860GOS-ND; Supplier 2: Newark; Supplier Part Number 2: 45J1707; Supplier 3: Mouser; Supplier Part Number 3: 863-MSR860G; Packing: Tube; RoHS: TRUE; Mounting Technology: Through Hole; ComponentLink1Description: Manufacturer URL; ComponentLink1URL: http://www.onsemi.com/; ComponentLink2Description: Datasheet; ComponentLink2URL: http://www.onsemi.com/pub_link/Collateral/MSR860-D.PDF; ComponentLink3Description: Package Specification; ComponentLink3URL: http://www.onsemi.com/pub_link/Collateral/221B-04.PDF
footprint ONSC-TO-220-2-221B-04 (FM, 2-Leads, Body 10.3x4.85mm, Pitch 5.08mm)
pins: 1 K, 3 A

## MSR1560
designator D?
SWITCHMODE(TM) Soft Recovery Power Rectifier, 2-Pin TO-220, Tube; Manufacturer: On Semiconductor; PartNumber: MSR1560; IFSM Max (A): 100; IO(rec) Max (A): 15; Type: Ultrasoft; VRRM Max (V): 600; DatasheetVersion: Rev. 7; PackageVersion: Rev. F, 04/2013; PackageReference: TO-220-2-221B-04; PackageDescription: 2-Pin Flange Mount, Vertical Straight Lead, Body 9.97 x 4.44 mm, Pitch 5.08 mm; Supplier 1: Digi-Key; Supplier Part Number 1: MSR1560OS-ND; Packing: Tube; RoHS: FALSE; Mounting Technology: Through Hole; ComponentLink1Description: Manufacturer URL; ComponentLink1URL: http://www.onsemi.com/; ComponentLink2Description: Datasheet; ComponentLink2URL: http://www.onsemi.com/pub_link/Collateral/MSR1560-D.PDF; ComponentLink3Description: Package Specification; ComponentLink3URL: http://www.onsemi.com/pub_link/Collateral/221B-04.PDF
footprint ONSC-TO-220-2-221B-04 (FM, 2-Leads, Body 10.3x4.85mm, Pitch 5.08mm)
pins: 1 K, 3 A

## MSR1560G
designator D?
SWITCHMODE(TM) Soft Recovery Power Rectifier, 2-Pin TO-220, Pb-Free, Tube; Manufacturer: On Semiconductor; PartNumber: MSR1560G; IFSM Max (A): 100; IO(rec) Max (A): 15; Type: Ultrasoft; VRRM Max (V): 600; DatasheetVersion: Rev. 7; PackageVersion: Rev. F, 04/2013; PackageReference: TO-220-2-221B-04; PackageDescription: 2-Pin Flange Mount, Vertical Straight Lead, Body 9.97 x 4.44 mm, Pitch 5.08 mm; Supplier 1: Digi-Key; Supplier Part Number 1: MSR1560GOS-ND; Supplier 2: Farnell; Supplier Part Number 2: 1705960; Supplier 3: Newark; Supplier Part Number 3: 45J1706; Supplier 4: Mouser; Supplier Part Number 4: 863-MSR1560G; Packing: Tube; RoHS: TRUE; Mounting Technology: Through Hole; ComponentLink1Description: Manufacturer URL; ComponentLink1URL: http://www.onsemi.com/; ComponentLink2Description: Datasheet; ComponentLink2URL: http://www.onsemi.com/pub_link/Collateral/MSR1560-D.PDF; ComponentLink3Description: Package Specification; ComponentLink3URL: http://www.onsemi.com/pub_link/Collateral/221B-04.PDF
footprint ONSC-TO-220-2-221B-04 (FM, 2-Leads, Body 10.3x4.85mm, Pitch 5.08mm)
pins: 1 K, 3 A

## MSRD620CTG
designator D?
SWITCHMODE(TM) Soft Ultrafast Recovery Power Rectifier, 3-Pin DPAK, Pb-Free, Tube; Manufacturer: On Semiconductor; PartNumber: MSRD620CTG; IFSM Max (A): 50; Type: Ultrasoft; VRRM Max (V): 200; DatasheetVersion: Rev. 7; PackageVersion: Rev. E, 02/2014; PackageReference: DPAK-3-369C-01; PackageDescription: 3-Pin Flange Mount, Body 6.54 x 6.095 mm, Pitch 2.29 mm; Supplier 1: Digi-Key; Supplier Part Number 1: MSRD620CTGOS-ND; Supplier 2: Farnell; Supplier Part Number 2: 1150501; Supplier 3: Newark; Supplier Part Number 3: 45J1704; Supplier 4: Mouser; Supplier Part Number 4: 863-MSRD620CTG; Packing: Tube; RoHS: TRUE; Mounting Technology: Surface Mount; ComponentLink1Description: Manufacturer URL; ComponentLink1URL: http://www.onsemi.com/; ComponentLink2Description: Datasheet; ComponentLink2URL: http://www.onsemi.com/pub_link/Collateral/MSRD620CT-D.PDF; ComponentLink3Description: Package Specification; ComponentLink3URL: http://www.onsemi.cn/pub_link/Collateral/369C.PDF
footprint ONSC-DPAK-3-369C-01_V (DPAK, 3-Leads, Body 6.54x6.095mm, Pitch 2.29mm)
pins: 1 A1, 3 A2, 4 K

## MSRD620CTRG
designator D?
SWITCHMODE(TM) Soft Ultrafast Recovery Reverse Polarity Power Rectifier, 3-Pin DPAK, Pb-Free, Tube; Manufacturer: On Semiconductor; PartNumber: MSRD620CTRG; IFSM Max (A): 45; Type: Ultrasoft; VRRM Max (V): 200; DatasheetVersion: Rev. 3; PackageVersion: Rev. E, 02/2014; PackageReference: DPAK-3-369C-01; PackageDescription: 3-Pin Flange Mount, Body 6.54 x 6.095 mm, Pitch 2.29 mm; Supplier 1: Digi-Key; Supplier Part Number 1: MSRD620CTRG-ND; Supplier 2: Newark; Supplier Part Number 2: 34R4219; Supplier 3: Mouser; Supplier Part Number 3: 863-MSRD620CTRG; Packing: Tube; RoHS: TRUE; Mounting Technology: Surface Mount; ComponentLink1Description: Manufacturer URL; ComponentLink1URL: http://www.onsemi.com/; ComponentLink2Description: Datasheet; ComponentLink2URL: http://www.onsemi.com/pub_link/Collateral/MSRD620CTR-D.PDF; ComponentLink3Description: Package Specification; ComponentLink3URL: http://www.onsemi.cn/pub_link/Collateral/369C.PDF
footprint ONSC-DPAK-3-369C-01_V (DPAK, 3-Leads, Body 6.54x6.095mm, Pitch 2.29mm)
pins: 1 K1, 3 K2, 4 A

## MSRD620CTT4G
designator D?
SWITCHMODE(TM) Soft Ultrafast Recovery Power Rectifier, 3-Pin DPAK, Pb-Free, Tape and Reel; Manufacturer: On Semiconductor; PartNumber: MSRD620CTT4G; IFSM Max (A): 50; Type: Ultrasoft; VRRM Max (V): 200; DatasheetVersion: Rev. 7; PackageVersion: Rev. E, 02/2014; PackageReference: DPAK-3-369C-01; PackageDescription: 3-Pin Flange Mount, Body 6.54 x 6.095 mm, Pitch 2.29 mm; Supplier 1: Digi-Key; Supplier Part Number 1: MSRD620CTT4GOSTR-ND; Supplier 2: Digi-Key; Supplier Part Number 2: MSRD620CTT4GOSCT-ND; Supplier 3: Digi-Key; Supplier Part Number 3: MSRD620CTT4GOSDKR-ND; Supplier 4: Farnell; Supplier Part Number 4: 2317438; Supplier 5: Newark; Supplier Part Number 5: 95W3518; Supplier 6: Newark; Supplier Part Number 6: 45J1705; Supplier 7: Mouser; Supplier Part Number 7: 863-MSRD620CTT4G; Packing: Tape and Reel; RoHS: TRUE; Mounting Technology: Surface Mount; ComponentLink1Description: Manufacturer URL; ComponentLink1URL: http://www.onsemi.com/; ComponentLink2Description: Datasheet; ComponentLink2URL: http://www.onsemi.com/pub_link/Collateral/MSRD620CT-D.PDF; ComponentLink3Description: Package Specification; ComponentLink3URL: http://www.onsemi.cn/pub_link/Collateral/369C.PDF
footprint ONSC-DPAK-3-369C-01_V (DPAK, 3-Leads, Body 6.54x6.095mm, Pitch 2.29mm)
pins: 1 A1, 3 A2, 4 K